# Altium footprint library PCB_EPS_2.PcbLib: 44 footprints (part 1 of 3)
Each footprint in its own frame and in the unit in brackets; x right, y up, seen from the top. Pads: shape width x height; smd on the part's side, far side on the other; paste and mask are expansions set on the pad; w line width, h text height; cw(c..) or ccw(c..) is an arc to the next point about the centre after c.
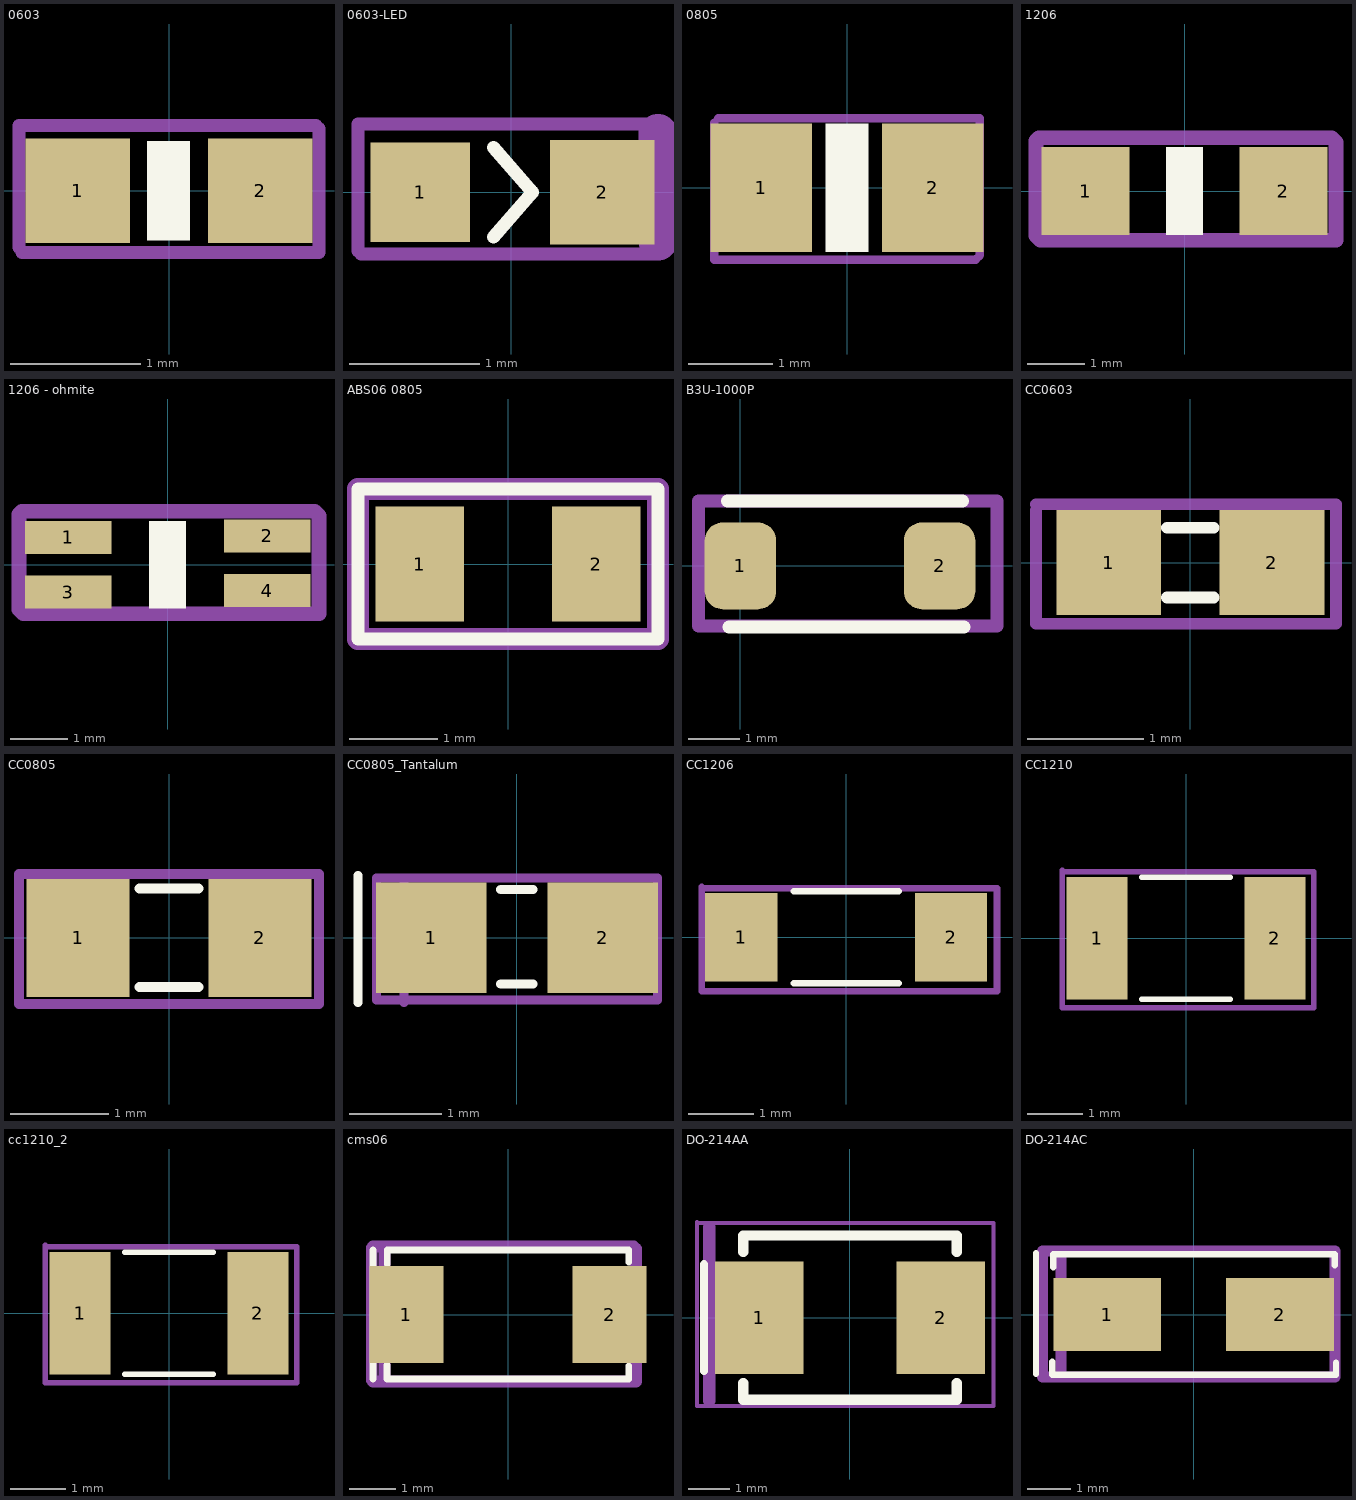
[diagram p0: the footprints below, top view; thin cyan lines are the x and y axes]

## 0603 [mm]
height 3.1
pads (2):
  rect 0.8x0.8 smd: 1(-0.699,0) 2(0.699,0)
Top Overlay:
  rectangle: -0.167,-0.381 0.163,0.381
Mechanical 15:
  lines w0.1: -1.15,-0.437 -1.15,-0.206 -1.15,0.256 -1.15,0.487 ; -1.15,0.5 1.125,0.5 ; -1.125,-0.475 1.15,-0.475 1.15,0.475
  text ".Designator" at -0.916,-0.112 h0.89
3D body "RES0603(1608M).STEP": height 0.79, standoff 0, extent -0.998,-0.394 1.002,0.394

## 0603-LED [mil]
height 33.46
pads (2):
  rect 30x30 smd: 1(-27.5,0)
  rect 31.5x31.5 smd: 2(27.5,0)
Top Overlay:
  lines w3.94: -5.31,-13.51 6.41,0 -5.31,13.51
Mechanical 15:
  lines w3.94: -46.26,-17.72 -46.26,20.67 43.31,20.67 ; -45.28,-18.7 43.31,-18.7
  lines w11.81: 44.29,-14.76 44.29,17.72
  text ".Designator" at -44.29,-6.89 h35
3D body "LED0603RED.STEP": height 43.31, standoff 0, extent -31.89,-15.74 31.89,15.75

## 0805 [mil]
height 122.05
pads (2):
  rect 47.24x60 smd: 1(-40,0) 2(40,0)
Top Overlay:
  rectangle: -10,-30 10,30
Mechanical 15:
  lines w3.94: -62.01,30.51 -62.01,-33.46 60.04,-33.46 62.01,-31.5 62.01,32.48 -60.04,32.48
  text ".Designator" at -58.7,-2.44 h35
3D body "RES0805(2012M).STEP": height 31.1, standoff 0, extent -50,-24.5 48.75,24.5

## 1206 [mil]
height 122.05
pads (2):
  rect 60x60 smd: 1(-67.5,0) 2(67.5,0)
Top Overlay:
  rectangle: -12.5,-30 12.5,30
Mechanical 15:
  lines w10: -101.38,-30.51 -98.43,-33.46 103.35,-33.46 103.35,33.46 100.39,36.42 -99.41,36.42 -101.38,34.45 -101.38,-30.51
  text ".Designator" at -101.38,-2.95 h35
3D body "RES1206(3216M).STEP": height 60.1, standoff 0, extent -79.31,-31.5 78.18,31.51

## 1206 - ohmite [mm]
pads (4):
  rect 1.5x0.57 smd: 1(-1.725,0.475) 2(1.725,0.5) 3(-1.725,-0.475) 4(1.725,-0.45)
Top Overlay:
  rectangle: -0.318,-0.762 0.317,0.762
Mechanical 15:
  lines w0.254: -2.575,-0.775 -2.5,-0.85 2.625,-0.85 2.625,0.85 2.55,0.925 -2.525,0.925 -2.575,0.875 -2.575,-0.775
  text ".Designator" at -2.575,-0.075 h0.89
3D body "RES1206(3216M).STEP": height 1.53, standoff 0, extent -2.015,-0.8 1.986,0.8

## ABS06 0805 [mm]
height 3.1
pads (2):
  rect 1x1.3 smd: 1(-1,0) 2(1,0)
Top Overlay:
  lines w0.15: -1.7,-0.85 1.7,-0.85 1.7,0.85 -1.7,0.85 -1.7,-0.85
Mechanical 15:
  lines w0.15: -1.7,-0.85 -1.7,0.85 1.7,0.85 1.7,-0.85 -1.7,-0.85
  lines w0.254: -1.7,-0.85 1.7,-0.85 1.7,0.85 -1.7,0.85 -1.7,-0.85
  text ".Designator" at -1.45,-0.25 h0.89
3D body "ABS06.STEP": height 0.6, standoff 0, extent -1,-0.6 1,0.62

## B3U-1000P [mm]
height 3.1
pads (2):
  rrect50% 1.4x1.7 smd: 1(0,0) 2(3.9,0)
Top Overlay:
  lines w0.254: -0.25,1.275 4.35,1.275 ; -0.225,-1.2 4.375,-1.2
Mechanical 15:
  lines w0.254: -0.825,-1.175 -0.825,1.275 5.025,1.275 5.025,-1.175 -0.825,-1.175
  text ".Designator" at -0.35,0.15 h0.89
3D body "B3U-1000P(M).STEP": height 1.6, standoff 0, extent 0.05,-1.275 4.05,1.225

## CC0603 [mm] "TDK mlccspec_commercial_general_midvoltage_en.pdf"
height 0.8
pads (2):
  rect 0.9x0.9 smd: 1(-0.7,0) 2(0.7,0)
Top Overlay:
  lines w0.1: -0.2,-0.3 0.2,-0.3 ; -0.2,0.3 0.2,0.3
Mechanical 15:
  lines w0.1: -1.325,0.45 -1.325,-0.525 1.25,-0.525 1.25,0.5 -1.325,0.5
  text ".Designator" at -1.075,-0.175 h0.89
3D body "CC0603(1608M).STEP": height 0.78, standoff -0.01, extent -1,-0.394 1,0.394

## CC0805 [mm] "TDK mlccspec_commercial_general_midvoltage_en.pdf"
height 1.25
pads (2):
  rect 1.05x1.2 smd: 1(-0.925,0) 2(0.925,0)
Top Overlay:
  lines w0.1: -0.3,-0.5 0.3,-0.5 ; -0.3,0.5 0.3,0.5
Mechanical 15:
  lines w0.1: -1.525,-0.675 1.525,-0.675 1.525,0.65 -1.525,0.65 -1.525,-0.675
  text ".Designator" at -1.275,-0.075 h0.89
3D body "CC0805(2012M).STEP": height 0.78, standoff -0.01, extent -1.254,-0.622 1.254,0.622

## CC0805_Tantalum [mm] "TDK mlccspec_commercial_general_midvoltage_en.pdf"
height 1.25
pads (2):
  rect 1.2x1.2 smd: 1(-0.93,0) 2(0.93,0)
Top Overlay:
  lines w0.1: -1.725,-0.7 -1.725,0.675 ; -0.175,-0.5 0.175,-0.5 ; -0.175,0.525 0.175,0.525
Mechanical 15:
  lines w0.1: -1.225,-0.7 -1.225,0.625 ; -1.525,-0.675 -1.525,0.65 1.525,0.65 1.525,-0.675 -1.525,-0.675
  text ".Designator" at -1.275,-0.075 h0.89
3D body "User Library-Tantalum Capacitor Case R.STEP": height 1.35, standoff 0, extent -1.042,-0.585 1.208,0.765

## CC1206 [mm] "TDK mlccspec_commercial_general_midvoltage_en.pdf"
height 1.6
pads (2):
  rect 1.1x1.35 smd: 1(-1.6,0) 2(1.6,0)
Top Overlay:
  lines w0.1: -0.8,-0.7 0.8,-0.7 ; -0.8,0.7 0.8,0.7
Mechanical 15:
  lines w0.1: -2.2,0.775 -2.2,-0.825 2.3,-0.825 2.3,0.75 -2.15,0.75
  text ".Designator" at -2.225,0.05 h0.89
3D body "CC1206(3216M).STEP": height 1.51, standoff -0.01, extent -2,-0.8 2,0.8

## CC1210 [mm] "TDK mlccspec_commercial_general_midvoltage_en.pdf"
height 2.5
pads (2):
  rect 1.1x2.2 smd: 1(-1.6,0) 2(1.6,0)
Top Overlay:
  lines w0.1: -0.8,-1.1 0.8,-1.1 ; -0.8,1.1 0.8,1.1
Mechanical 15:
  lines w0.1: -2.225,1.225 -2.225,-1.25 2.3,-1.25 2.3,1.2 -2.175,1.2
  text ".Designator" at -2.25,0.5 h0.89
3D body "CC1210(3225M).STEP": height 1.69, standoff -0.01, extent -2,-1.244 2,1.245

## cc1210_2 [mm]
pads (2):
  rect 1.1x2.2 smd: 1(-1.6,0) 2(1.6,0)
Top Overlay:
  lines w0.1: -0.8,-1.1 0.8,-1.1 ; -0.8,1.1 0.8,1.1
Mechanical 15:
  lines w0.1: -2.225,1.225 -2.225,-1.25 2.3,-1.25 2.3,1.2 -2.175,1.2
  text ".Designator" at -2.25,0.5 h0.89
3D body "CC1210(3225M).STEP": height 1.69, standoff -0.01, extent -2,-1.244 2,1.245

## cms06 [mm]
height 3.1
pads (2):
  rect 1.6x2.1 smd: 1(-2.2,0) 2(2.2,0)
Top Overlay:
  lines w0.15: -2.921,-1.4 -2.921,1.4 ; -2.626,-1.092 -2.626,-1.4 2.616,-1.4 2.616,-1.118 ; -2.616,1.092 -2.616,1.4 2.616,1.4 2.616,1.143
Mechanical 15:
  lines w0.254: -2.675,-1.35 -2.675,1.425 ; -2.95,-1.425 -2.95,1.45 -2.925,1.475 2.725,1.475 2.775,1.425 2.775,-1.45 -2.925,-1.45 -2.95,-1.425
  text ".Designator" at -2.425,0.05 h0.89
3D body "User Library-CMS06.STEP": height 0.97, standoff -0.01, extent -2.35,-1.2 2.35,1.2

## DO-214AA [mm]
height 3.1
pads (2):
  rect 2.159x2.743 smd: 1(-2.21,0) 2(2.21,0)
Top Overlay:
  lines w0.2: -3.556,-1.3 -3.556,1.3
  lines w0.254: -2.6,-1.6 -2.6,-2 2.6,-2 2.6,-1.6 ; -2.6,1.6 -2.6,2 2.6,2 2.6,1.6
Mechanical 15:
  lines w0.1: -3.725,2.325 -3.725,-2.15 3.5,-2.15 3.5,2.3 -3.675,2.3
  lines w0.3: -3.425,-2.025 -3.425,2.2
  text ".Designator" at -2.875,0.6 h0.89
3D body "User Library-DIOM5539X24.STEP": height 2.45, standoff 0.03, extent -2.775,-1.899 2.725,2.001

## DO-214AC [mm]
height 3.1
pads (2):
  rect 2.5x1.7 smd: 1(-2,0) 2(2,0)
Top Overlay:
  lines w0.15: -3.65,-1.375 -3.65,1.425 ; -3.275,-1.092 -3.275,-1.4 3.3,-1.4 3.3,-1.118 ; -3.25,1.092 -3.25,1.4 3.275,1.4 3.275,1.143
Mechanical 15:
  lines w0.254: -3.075,-1.375 -3.075,1.4 ; -3.5,-1.45 -3.5,1.475 3.275,1.475 3.275,-1.45 -2.925,-1.45 -3.5,-1.45
  text ".Designator" at -2.425,0.05 h0.89
3D body "User Library-DIOM5528X26.STEP": height 2.6, standoff 0.03, extent -2.625,-1.375 2.875,1.425